# EAGLE library part DS1308U (library Maxim Integrated)
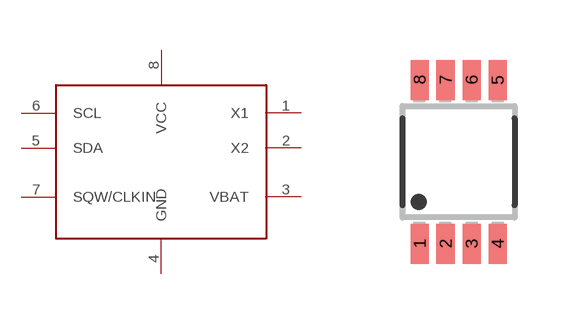
[diagram p1: symbol with the pads of 8-MSOP; footprint 8-MSOP]

Designator prefix -

## DS1308U  [8-MSOP]
1  X1
2  X2
3  VBAT
4  GND
5  SDA
6  SCL
7  SQW/CLKIN
8  VCC

## Footprint 8-MSOP (pad centres in mm)
smd 0.45 x 1: 1 -0.975,-2.05; 2 -0.325,-2.05; 3 0.325,-2.05; 4 0.975,-2.05; 5 0.975,2.05; 6 0.325,2.05; 7 -0.325,2.05; 8 -0.975,2.05